# Altium footprint library PcbLib1.PcbLib: 1 footprints
Each footprint in its own frame and in the unit in brackets; x right, y up, seen from the top. Pads: shape width x height; smd on the part's side, far side on the other; paste and mask are expansions set on the pad; w line width, h text height; cw(c..) or ccw(c..) is an arc to the next point about the centre after c.
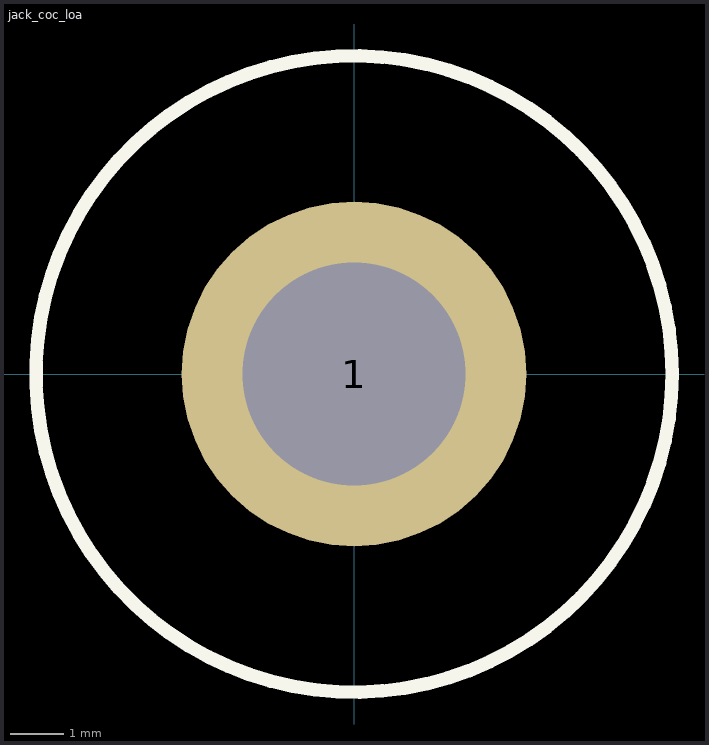
[diagram p0: the footprint, top view; thin cyan lines are the x and y axes]

## jack_coc_loa [mm]
pads (1):
  round 6.5 hole 4.2: 1(0,0)
Top Overlay:
  circle w0.254: c0,0 r6
3D body "4mm_banana_socket_assembly.STEP": height 28.2, standoff -8, extent -6.45,-6.4 6.35,6.4